# Altium footprint library Coper.PcbLib: 37 footprints (part 1 of 3)
Each footprint in its own frame and in the unit in brackets; x right, y up, seen from the top. Pads: shape width x height; smd on the part's side, far side on the other; paste and mask are expansions set on the pad; w line width, h text height; cw(c..) or ccw(c..) is an arc to the next point about the centre after c.
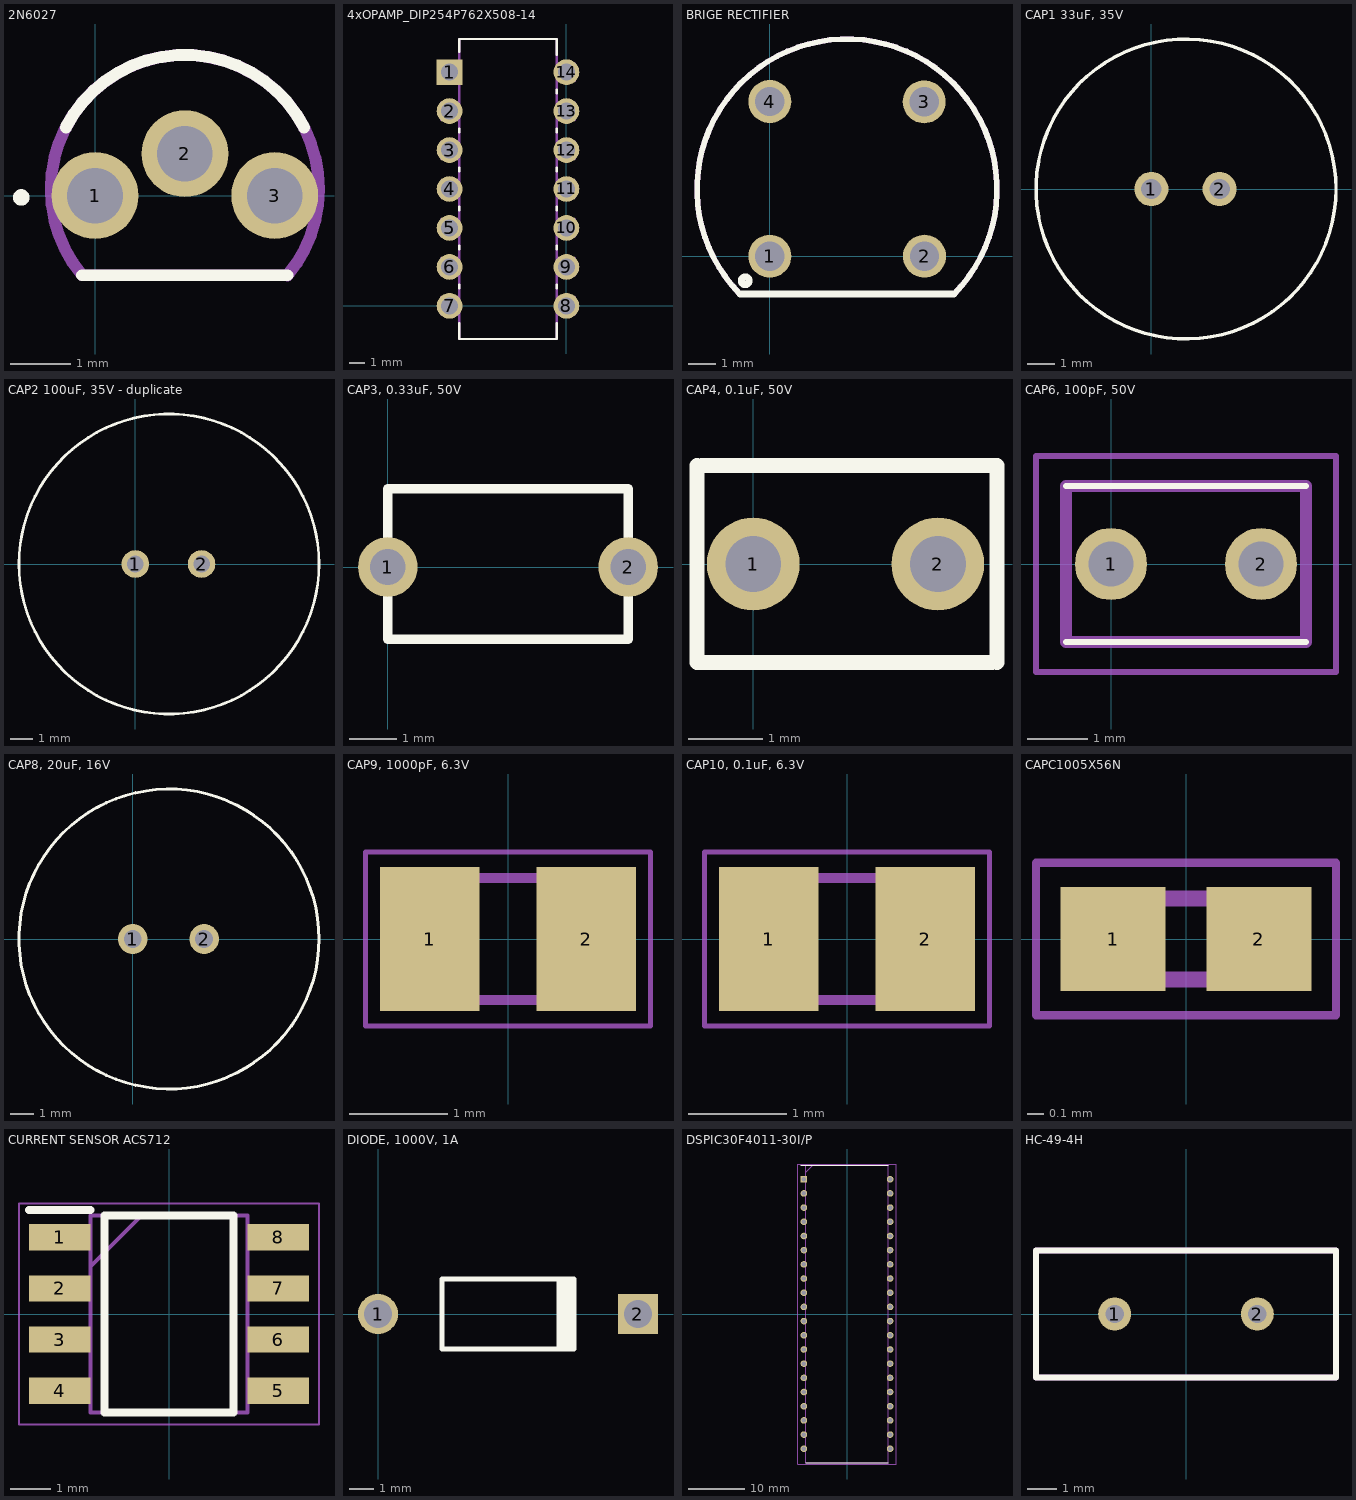
[diagram p0: the footprints below, top view; thin cyan lines are the x and y axes]

## 2N6027 [mm]
pads (3):
  round 1.45 hole 0.93: 1(0,0) 2(1.5,0.7) 3(3,0)
Top Overlay:
  circle w0.2: c-1.232,-0.031 r0.038
  lines w0.2: -0.488,1.141 cw(c1.5,0.11) 3.49,1.138 ; -0.215,-1.33 3.215,-1.33 -0.215,-1.33
Mechanical 13:
  lines w0.2: -0.216,-1.329 cw(c1.5,0.11) 3.213,-1.332 ; -0.215,-1.33 3.215,-1.33

## 4xOPAMP_DIP254P762X508-14 [mil]
pads (14):
  rect 66x66 hole 44: 1(-300,600)
  round 66 hole 44: 2(-300,500) 3(-300,400) 4(-300,300) 5(-300,200) 6(-300,100) 7(-300,0) 8(0,0) 9(0,100) 10(0,200) 11(0,300) 12(0,400) 13(0,500) 14(0,600)
Top Overlay:
  lines w6: -275,-45 -275,-85 -25,-85 -25,-45 ; -275,45 -275,55 ; -275,145 -275,155 ; -275,245 -275,255 ; -275,345 -275,355 ; -275,445 -275,455 ; -275,652 -275,685 -162,685 -138,685 -25,685 -25,645 ; -25,45 -25,55 ; -25,145 -25,155 ; -25,245 -25,255 ; -25,345 -25,355 ; -25,445 -25,455 ; -25,545 -25,555
Mechanical 13:
  lines w6: -322,-22 -275,-22 -275,22 -322,22 -322,-22 ; -322,78 -275,78 -275,122 -322,122 -322,78 ; -322,178 -275,178 -275,222 -322,222 -322,178 ; -322,278 -275,278 -275,322 -322,322 -322,278 ; -322,378 -275,378 -275,422 -322,422 -322,378 ; -322,478 -275,478 -275,522 -322,522 -322,478 ; -322,578 -275,578 -275,622 -322,622 -322,578 ; -275,-85 -275,685 -162,685 -138,685 -25,685 -25,-85 -275,-85 ; -25,-22 22,-22 22,22 -25,22 -25,-22 ; -25,78 22,78 22,122 -25,122 -25,78 ; -25,178 22,178 22,222 -25,222 -25,178 ; -25,278 22,278 22,322 -25,322 -25,278 ; -25,378 22,378 22,422 -25,422 -25,378 ; -25,478 22,478 22,522 -25,522 -25,478 ; -25,578 22,578 22,622 -25,622 -25,578

## BRIGE RECTIFIER [mm] "Max dia = 0.81mm"
pads (4):
  oval 1.56x1.55 hole 1.06: 1(0,0)
  round 1.56 hole 1.06: 2(5.6,0) 3(5.588,5.588) 4(0,5.6)
Top Overlay:
  circle w0.25: c-0.889,-0.889 r0.143
  lines w0.2: -1.086,-1.366 cw(c2.794,2.433) 6.674,-1.366
  lines w0.254: -1.086,-1.366 6.674,-1.366
Top Solder:
  lines w0.254: -1.086,-1.366 6.674,-1.366
Mechanical 13:
  lines w0.2: -1.086,-1.366 cw(c2.794,2.433) 6.674,-1.366

## CAP1 33uF, 35V [mm] "Thru-Hole;"
height 12.5
pads (2):
  round 1.25 hole 0.75: 1(0,0) 2(2.5,0)
Top Overlay:
  circle w0.127: c1.27,0 r5.5

## CAP2 100uF, 35V - duplicate [mm] "Thru-Hole;"
height 12.5
pads (2):
  round 1.25 hole 0.75: 1(0,0) 2(3,0)
Top Overlay:
  circle w0.127: c1.524,0 r6.8

## CAP3, 0.33uF, 50V [mm] "Thru-Hole;"
height 6.35
pads (2):
  round 1.258 hole 0.758: 1(0,0) 2(5.08,0)
Top Overlay:
  lines w0.2: 0,-1.524 5.08,-1.524 5.08,1.651 0,1.651 0,-1.524

## CAP4, 0.1uF, 50V [mm] "Radial Cap, Thru-Hole; 2 Leads; 0.3 in Pin Spacing"
height 6
pads (2):
  round 1.258 hole 0.758: 1(0,0) 2(2.5,0)
Top Overlay:
  lines w0.2: -0.762,1.333 -0.762,-1.333 3.238,-1.333 ; -0.698,1.333 3.302,1.333 3.302,-1.333

## CAP6, 100pF, 50V [mm]
pads (2):
  round 1.2 hole 0.75: 1(0,0) 2(2.5,0)
Top Overlay:
  lines w0.1: -0.75,-1.3 3.25,-1.3 ; -0.75,1.3 3.25,1.3
Mechanical 13:
  lines w0.2: -0.75,-1.3 -0.75,1.3 3.25,1.3 3.25,-1.3 -0.75,-1.3
Mechanical 15:
  lines w0.1: -1.25,-1.8 -1.25,1.8 3.75,1.8 3.75,-1.8 -1.25,-1.8
3D body "K101J10C0GF5UH5.stp": height 5.7, standoff -5, extent -0.75,-1.3 3.25,1.3

## CAP8, 20uF, 16V [mm] "Thru-Hole;"
height 12.5
pads (2):
  round 1.25 hole 0.75: 1(0,0) 2(3,0)
Top Overlay:
  circle w0.127: c1.524,0 r6.3

## CAP9, 1000pF, 6.3V [mm]
pads (2):
  rect 1.02x1.47 smd: 1(-0.8,0) 2(0.8,0)
Mechanical 13:
  lines w0.1: -1,-0.625 1,-0.625 1,0.625 -1,0.625 -1,-0.625
Mechanical 15:
  lines w0.05: -1.46,-0.89 1.46,-0.89 1.46,0.89 -1.46,0.89 -1.46,-0.89
3D body "C0805C104K9RACTU.stp": height 0.88, standoff 0, extent -1,-0.625 1,0.625

## CAP10, 0.1uF, 6.3V [mm]
pads (2):
  rect 1.02x1.47 smd: 1(-0.8,0) 2(0.8,0)
Mechanical 13:
  lines w0.1: -1,-0.625 1,-0.625 1,0.625 -1,0.625 -1,-0.625
Mechanical 15:
  lines w0.05: -1.46,-0.89 1.46,-0.89 1.46,0.89 -1.46,0.89 -1.46,-0.89
3D body "C0805C104K9RACTU.stp": height 0.88, standoff 0, extent -1,-0.625 1,0.625

## CAPC1005X56N [mm]
pads (2):
  rect 0.65x0.64 smd: 1(-0.45,0) 2(0.45,0)
Mechanical 13:
  lines w0.1: -0.5,-0.25 -0.5,0.25 0.5,0.25 0.5,-0.25 -0.5,-0.25
Mechanical 15:
  lines w0.05: -0.925,-0.47 -0.925,0.47 0.925,0.47 0.925,-0.47 -0.925,-0.47
3D body "04025A220JAT2A.stp": height 0.56, standoff 0, extent -0.5,-0.25 0.5,0.25

## CURRENT SENSOR ACS712 [mm]
pads (8):
  rect 1.525x0.65 smd: 1(-2.712,1.905) 2(-2.712,0.635) 3(-2.712,-0.635) 4(-2.712,-1.905) 5(2.712,-1.905) 6(2.712,-0.635) 7(2.712,0.635) 8(2.712,1.905)
Top Overlay:
  lines w0.2: -3.475,2.58 -1.95,2.58 ; -1.6,-2.45 1.6,-2.45 1.6,2.45 -1.6,2.45 -1.6,-2.45
Mechanical 13:
  lines w0.1: -1.95,1.18 -0.68,2.45 ; -1.95,-2.45 1.95,-2.45 1.95,2.45 -1.95,2.45 -1.95,-2.45
Mechanical 15:
  lines w0.05: -3.725,-2.75 3.725,-2.75 3.725,2.75 -3.725,2.75 -3.725,-2.75
3D body "NE555DR.stp": height 1.75, standoff 0, extent -3,-2.45 3,2.45

## DIODE, 1000V, 1A [mm] "Through Hole"
height 2.8
pads (2):
  round 1.61 hole 1.11: 1(0,0)
  rect 1.61x1.61 hole 1.11: 2(10.46,0)
Top Overlay:
  rectangle: 7.18,-1.4 7.98,1.4
  lines w0.2: 7.88,-1.4 2.58,-1.4 2.58,1.4 7.88,1.4

## DSPIC30F4011-30I/P [mm]
pads (40):
  rect 1.184x1.184 hole 0.784: 1(-7.715,24.13)
  round 1.184 hole 0.784: 2(-7.715,21.59) 3(-7.715,19.05) 4(-7.715,16.51) 5(-7.715,13.97) 6(-7.715,11.43) 7(-7.715,8.89) 8(-7.715,6.35) 9(-7.715,3.81) 10(-7.715,1.27) 11(-7.715,-1.27) 12(-7.715,-3.81) 13(-7.715,-6.35) 14(-7.715,-8.89) 15(-7.715,-11.43) 16(-7.715,-13.97) 17(-7.715,-16.51) 18(-7.715,-19.05) 19(-7.715,-21.59) 20(-7.715,-24.13) 21(7.715,-24.13) 22(7.715,-21.59) 23(7.715,-19.05) 24(7.715,-16.51) 25(7.715,-13.97) 26(7.715,-11.43) 27(7.715,-8.89) 28(7.715,-6.35) 29(7.715,-3.81) 30(7.715,-1.27) 31(7.715,1.27) 32(7.715,3.81) 33(7.715,6.35) 34(7.715,8.89) 35(7.715,11.43) 36(7.715,13.97) 37(7.715,16.51) 38(7.715,19.05) 39(7.715,21.59) 40(7.715,24.13)
Top Overlay:
  lines w0.2: -8.307,26.606 7.366,26.606 ; -7.366,-26.606 7.366,-26.606
Mechanical 13:
  lines w0.1: -7.366,25.336 -6.096,26.606 ; -7.366,-26.606 7.366,-26.606 7.366,26.606 -7.366,26.606 -7.366,-26.606
Mechanical 15:
  lines w0.05: -8.78,-26.856 8.78,-26.856 8.78,26.856 -8.78,26.856 -8.78,-26.856
3D body "DSPIC30F4011-30I_P.stp": height 6.35, standoff -3.5, extent -7.861,-25.876 7.861,25.876

## HC-49-4H [mm]
pads (2):
  round 1.13 hole 0.63: 1(-2.44,0) 2(2.44,0)
Top Overlay:
  lines w0.2: -5.13,-2.17 5.13,-2.17 5.13,2.17 -5.13,2.17 -5.13,-2.17
Mechanical 13:
  lines w0.2: -5.13,-2.17 -5.13,2.17 5.13,2.17 5.13,-2.17 -5.13,-2.17